# EAGLE library part AD9833 (library NewSDR)
Analog Devices Low Power, 12.65 mW, 2.3 V to 5.5 V, Programmable Waveform Generator
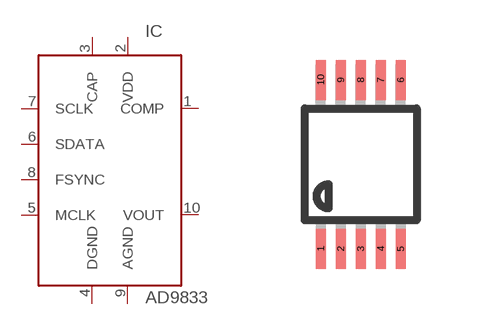
[diagram p216: symbol with the pads of MSOP10; footprint MSOP10]

Designator prefix IC

## AD9833  [MSOP10]
1  COMP  pas
2  VDD  pwr
3  CAP  pas
4  DGND  pwr
5  MCLK
6  SDATA  in
7  SCLK  in
8  FSYNC  in
9  AGND  pwr
10  VOUT  out

## Footprint MSOP10 (pad centres in mm)
10-Lead Mini Small Outline Package [MSOP] (RM-10) Source: http://www.analog.com/UploadedFiles/Data_Sheets/35641221898805SSM2167_b.pdf COMPLIANT TO JEDEC STANDARDS MO-187BA
smd 0.25 x 1: 1 -1,-2.113; 2 -0.5,-2.113; 3 0,-2.113; 4 0.5,-2.113; 5 1,-2.113; 6 1,2.113; 7 0.5,2.113; 8 0,2.113; 9 -0.5,2.113; 10 -1,2.113